# Altium footprint library apollo.PcbLib: 245 footprints (part 11 of 16)
Each footprint in its own frame and in the unit in brackets; x right, y up, seen from the top. Pads: shape width x height; smd on the part's side, far side on the other; paste and mask are expansions set on the pad; w line width, h text height; cw(c..) or ccw(c..) is an arc to the next point about the centre after c.
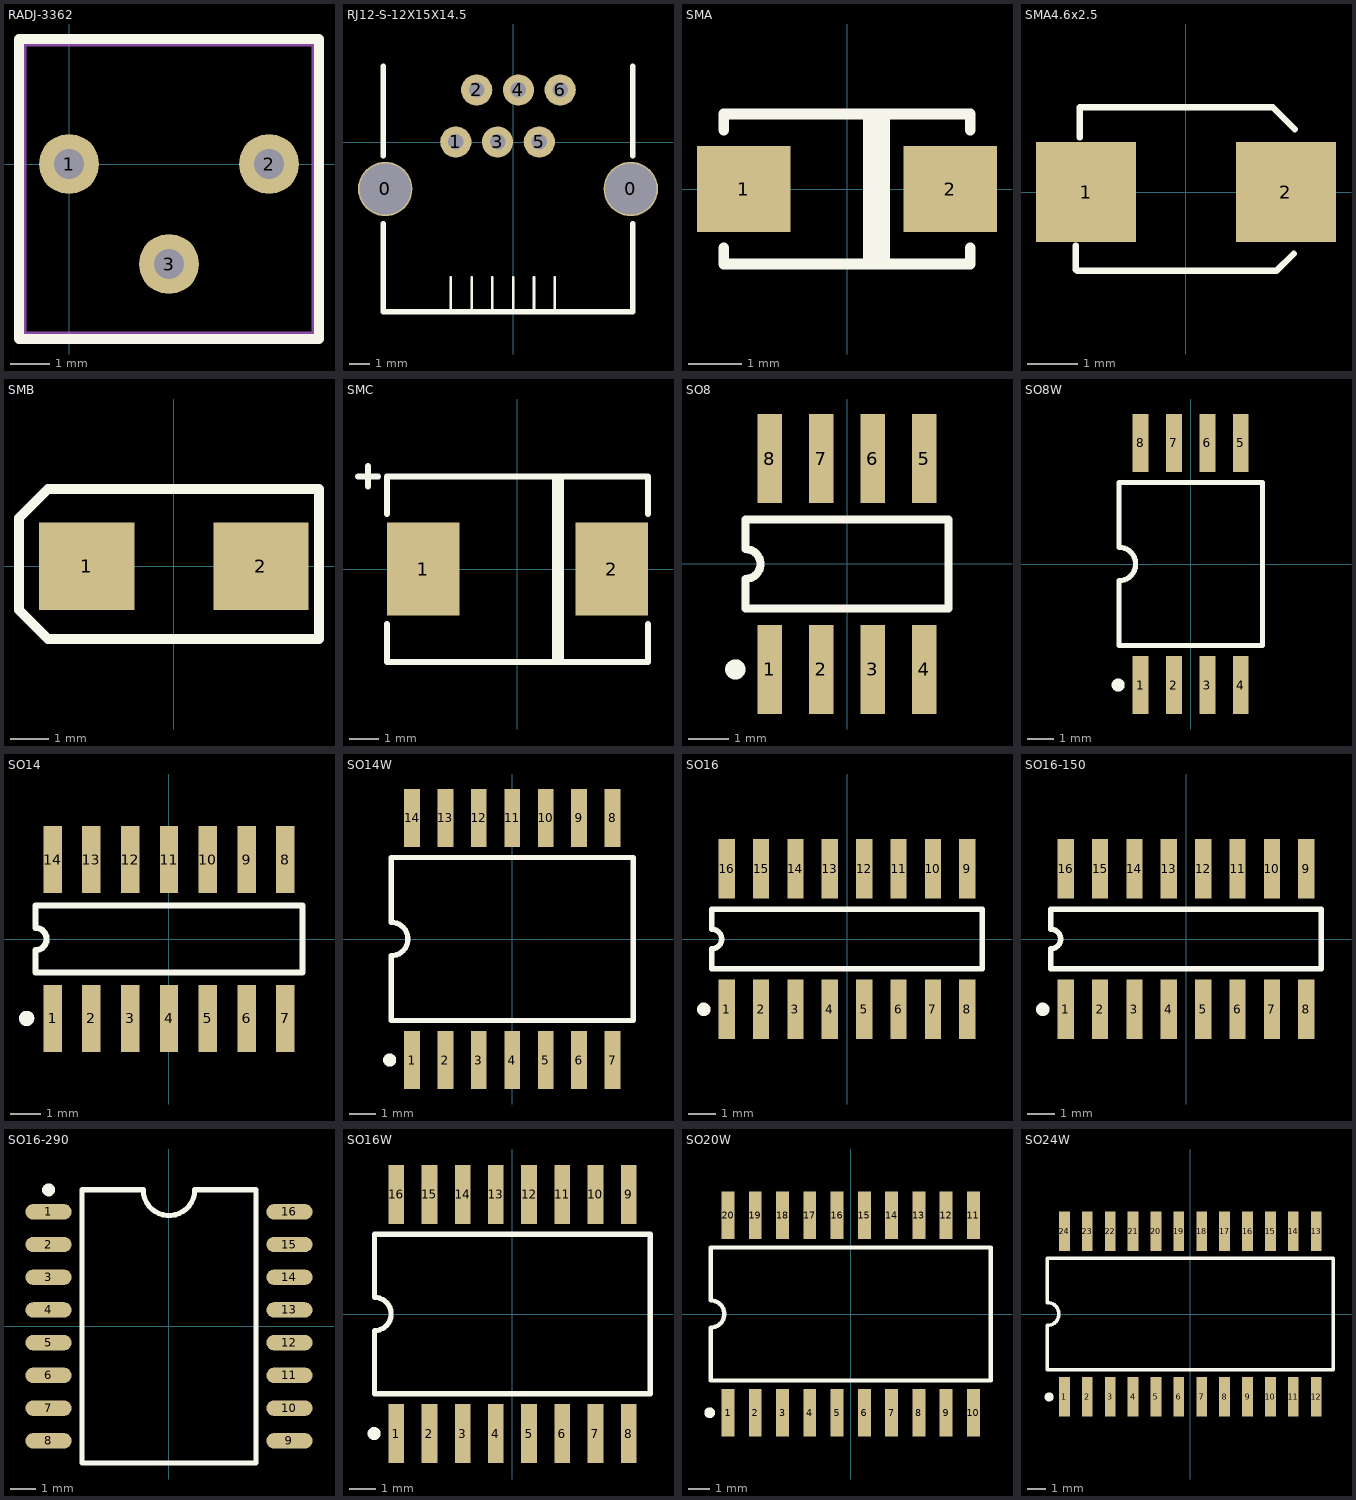
[diagram p10: the footprints below, top view; thin cyan lines are the x and y axes]

## RADJ-3362 [mil] "3362可调电阻"
height 185.04
pads (3):
  round 60 hole 30: 1(0,0) 2(200,0) 3(100,-100)
Top Overlay:
  lines w10: -50,-175 -50,125 250,125 250,-175 -50,-175
Mechanical 13:
  lines w10: -47.5,-169.43 -47.5,122.5 ; -45.65,-172.5 246.28,-172.5 ; -45.65,122.5 246.28,122.5 ; 247.5,-170.65 247.5,121.28

## RJ12-S-12X15X14.5 [mil] "RJ12 socket"
height 570.87
pads (8):
  round 104.69 hole 98.43: 0(-246.22,-90.28) 0(226.22,-90.28)
  round 60 hole 30: 1(-110.39,0.28) 2(-70.24,100.28) 3(-30.08,0.28) 4(10.08,100.28) 5(50.24,0.28) 6(90.39,100.28)
Top Overlay:
  lines w5: -120,-326.5 -120,-260 ; -80,-326.5 -80,-260 ; -40,-326.5 -40,-260 ; 0,-326.5 0,-260 ; 40,-326.5 40,-260 ; 80,-326.5 80,-260
  lines w10: -250.16,-156.5 -250.16,-326.5 230.16,-326.5 230.16,-156.81 229.84,-156.5 ; -250.16,-26.5 -250.16,145.94 ; 229.84,-26.5 230.16,-26.18 230.16,145.94

## SMA [mm]
pads (2):
  rect 1.75x1.6 smd: 1(-1.925,0) 2(1.925,0)
Top Overlay:
  rectangle: 0.3,-1.5 0.806,1.5
  lines w0.203: -2.3,-1.1 -2.3,-1.4 2.3,-1.4 2.3,-1.1 ; -2.3,1.1 -2.3,1.4 2.3,1.4 2.3,1.1
3D body: height 2.15, standoff 0, extent -2.6,-1.325 2.6,1.325

## SMA4.6x2.5 [mm] "SMA贴片 4.6mmX2.5mm"
height 2.44
pads (2):
  rect 2x2 smd: 1(-2,0) 2(2,0)
Top Overlay:
  lines w0.127: -2.203,-1.067 -2.203,-1.549 -2.178,-1.575 1.81,-1.575 2.153,-1.232 ; -2.127,1.092 -2.127,1.702 -2.102,1.702 1.734,1.702 2.178,1.257

## SMB [mm]
pads (2):
  rect 2.5x2.3 smd: 1(-2.286,0) 2(2.286,0)
Top Overlay:
  lines w0.254: -4.064,-1.143 -3.302,-1.905 3.81,-1.905 3.81,2.032 -3.302,2.032 -4.064,1.27 -4.064,-1.143

## SMC [mm]
pads (2):
  rect 2.5x3.2 smd: 1(-3.25,0) 2(3.25,0)
Top Overlay:
  rectangle: 1.2,-3.2 1.606,3.2
  lines w0.203: -5.5,3.2 -5.15,3.2 ; -5.15,2.85 -5.15,3.2 ; -5.15,3.55 -5.15,3.2 ; -4.8,3.2 -5.15,3.2 ; -4.5,-1.9 -4.5,-3.2 4.5,-3.2 4.5,-1.9 ; -4.5,1.9 -4.5,3.2 4.5,3.2 4.5,1.9
3D body: height 2.8, standoff 0, extent -3.799,-3.1 3.799,3.12

## SO8 [mm] "Small Outline; 8 Leads; Body Width 3.9 mm; Pitch 1.27 mm"
height 1.75
pads (8):
  rect 0.6x2.2 smd: 1(-1.905,-2.6) 2(-0.635,-2.6) 3(0.635,-2.6) 4(1.905,-2.6) 5(1.905,2.6) 6(0.635,2.6) 7(-0.635,2.6) 8(-1.905,2.6)
Top Overlay:
  circle w0.25: c-2.755,-2.6 r0.125
  lines w0.2: -2.5,-1.1 -2.5,-0.367 ccw(c-2.5,0) -2.5,0.367 -2.5,1.1 2.5,1.1 2.5,-1.1 -2.5,-1.1

## SO8W [mm] "Small Outline; 8 Leads; Body Width 7.5 mm; Pitch 1.27 mm"
height 2.65
pads (8):
  rect 0.6x2.2 smd: 1(-1.905,-4.6) 2(-0.635,-4.6) 3(0.635,-4.6) 4(1.905,-4.6) 5(1.905,4.6) 6(0.635,4.6) 7(-0.635,4.6) 8(-1.905,4.6)
Top Overlay:
  circle w0.25: c-2.755,-4.6 r0.125
  lines w0.2: -2.725,-3.1 -2.725,-0.635 ccw(c-2.725,0) -2.725,0.635 -2.725,3.1 2.725,3.1 2.725,-3.1 -2.725,-3.1

## SO14 [mm] "Small Outline; 14 Leads; Body Width 3.9 mm; Pitch 1.27 mm"
height 1.75
pads (14):
  rect 0.6x2.2 smd: 1(-3.81,-2.6) 2(-2.54,-2.6) 3(-1.27,-2.6) 4(0,-2.6) 5(1.27,-2.6) 6(2.54,-2.6) 7(3.81,-2.6) 8(3.81,2.6) 9(2.54,2.6) 10(1.27,2.6) 11(0,2.6) 12(-1.27,2.6) 13(-2.54,2.6) 14(-3.81,2.6)
Top Overlay:
  circle w0.25: c-4.66,-2.6 r0.125
  lines w0.2: -4.375,-1.1 -4.375,-0.367 ccw(c-4.375,0) -4.375,0.367 -4.375,1.1 4.375,1.1 4.375,-1.1 -4.375,-1.1

## SO14W [mm] "Small Outline; 14 Leads; Body Width 7.5 mm; Pitch 1.27 mm"
height 2.65
pads (14):
  rect 0.6x2.2 smd: 1(-3.81,-4.6) 2(-2.54,-4.6) 3(-1.27,-4.6) 4(0,-4.6) 5(1.27,-4.6) 6(2.54,-4.6) 7(3.81,-4.6) 8(3.81,4.6) 9(2.54,4.6) 10(1.27,4.6) 11(0,4.6) 12(-1.27,4.6) 13(-2.54,4.6) 14(-3.81,4.6)
Top Overlay:
  circle w0.25: c-4.66,-4.6 r0.125
  lines w0.2: -4.6,-3.1 4.6,-3.1 4.6,3.1 -4.6,3.1 -4.6,0.635 cw(c-4.6,0) -4.6,-0.635 -4.6,-3.1

## SO16 [mm] "Small Outline; 16 Leads; Body Width 3.9 mm; Pitch 1.27 mm"
height 1.75
pads (16):
  rect 0.6x2.2 smd: 1(-4.445,-2.6) 2(-3.175,-2.6) 3(-1.905,-2.6) 4(-0.635,-2.6) 5(0.635,-2.6) 6(1.905,-2.6) 7(3.175,-2.6) 8(4.445,-2.6) 9(4.445,2.6) 10(3.175,2.6) 11(1.905,2.6) 12(0.635,2.6) 13(-0.635,2.6) 14(-1.905,2.6) 15(-3.175,2.6) 16(-4.445,2.6)
Top Overlay:
  circle w0.25: c-5.295,-2.6 r0.125
  lines w0.2: -5,-1.1 -5,-0.367 ccw(c-5,0) -5,0.367 -5,1.1 5,1.1 5,-1.1 -5,-1.1

## SO16-150 [mm] "SOP 16pin, 主体宽度4mm"
height 4.064
pads (16):
  rect 0.6x2.2 smd: 1(-4.445,-2.6) 2(-3.175,-2.6) 3(-1.905,-2.6) 4(-0.635,-2.6) 5(0.635,-2.6) 6(1.905,-2.6) 7(3.175,-2.6) 8(4.445,-2.6) 9(4.445,2.6) 10(3.175,2.6) 11(1.905,2.6) 12(0.635,2.6) 13(-0.635,2.6) 14(-1.905,2.6) 15(-3.175,2.6) 16(-4.445,2.6)
Top Overlay:
  circle w0.25: c-5.295,-2.6 r0.125
  lines w0.2: -5,-1.1 5,-1.1 5,1.1 -5,1.1 -5,0.367 cw(c-5,0) -5,-0.367 -5,-1.1
3D body: height 1.4, standoff -0.05, extent -4.978,-2.972 4.997,2.972

## SO16-290 [mm] "SOP 16pin, 主体宽7.36mm"
height 3.632
pads (16):
  oval 1.8x0.6 smd: 1(-4.675,4.445) 2(-4.675,3.175) 3(-4.675,1.905) 4(-4.675,0.635) 5(-4.675,-0.635) 6(-4.675,-1.905) 7(-4.675,-3.175) 8(-4.675,-4.445) 9(4.675,-4.445) 10(4.675,-3.175) 11(4.675,-1.905) 12(4.675,-0.635) 13(4.675,0.635) 14(4.675,1.905) 15(4.675,3.175) 16(4.675,4.445)
Top Overlay:
  circle w0.25: c-4.675,5.295 r0.125
  lines w0.2: -3.375,-5.3 3.375,-5.3 3.375,5.3 1,5.3 cw(c0,5.3) -1,5.3 -3.375,5.3 -3.375,-5.3
3D body: height 3.71, standoff 0.02, extent -5.2,-5.156 5.163,5.156

## SO16W [mm] "Small Outline; 16 Leads; Body Width 7.5 mm; Pitch 1.27 mm"
height 2.65
pads (16):
  rect 0.6x2.25 smd: 1(-4.445,-4.575) 2(-3.175,-4.575) 3(-1.905,-4.575) 4(-0.635,-4.575) 5(0.635,-4.575) 6(1.905,-4.575) 7(3.175,-4.575) 8(4.445,-4.575) 9(4.445,4.575) 10(3.175,4.575) 11(1.905,4.575) 12(0.635,4.575) 13(-0.635,4.575) 14(-1.905,4.575) 15(-3.175,4.575) 16(-4.445,4.575)
Top Overlay:
  circle w0.25: c-5.295,-4.575 r0.125
  lines w0.2: -5.275,-3.05 -5.275,-0.635 ccw(c-5.275,0) -5.275,0.635 -5.275,3.05 5.275,3.05 5.275,-3.05 -5.275,-3.05

## SO20W [mm] "Small Outline; 20 Leads; Body Width 7.5 mm; Pitch 1.27 mm"
height 2.65
pads (20):
  rect 0.6x2.2 smd: 1(-5.715,-4.6) 2(-4.445,-4.6) 3(-3.175,-4.6) 4(-1.905,-4.6) 5(-0.635,-4.6) 6(0.635,-4.6) 7(1.905,-4.6) 8(3.175,-4.6) 9(4.445,-4.6) 10(5.715,-4.6) 11(5.715,4.6) 12(4.445,4.6) 13(3.175,4.6) 14(1.905,4.6) 15(0.635,4.6) 16(-0.635,4.6) 17(-1.905,4.6) 18(-3.175,4.6) 19(-4.445,4.6) 20(-5.715,4.6)
Top Overlay:
  circle w0.25: c-6.565,-4.6 r0.125
  lines w0.2: -6.525,-3.1 6.525,-3.1 6.525,3.1 -6.525,3.1 -6.525,0.635 cw(c-6.525,0) -6.525,-0.635 -6.525,-3.1

## SO24W [mm] "Small Outline; 24 Leads; Body Width 7.5 mm; Pitch 1.27 mm"
height 2.64
pads (24):
  rect 0.6x2.2 smd: 1(-6.985,-4.6) 2(-5.715,-4.6) 3(-4.445,-4.6) 4(-3.175,-4.6) 5(-1.905,-4.6) 6(-0.635,-4.6) 7(0.635,-4.6) 8(1.905,-4.6) 9(3.175,-4.6) 10(4.445,-4.6) 11(5.715,-4.6) 12(6.985,-4.6) 13(6.985,4.6) 14(5.715,4.6) 15(4.445,4.6) 16(3.175,4.6) 17(1.905,4.6) 18(0.635,4.6) 19(-0.635,4.6) 20(-1.905,4.6) 21(-3.175,4.6) 22(-4.445,4.6) 23(-5.715,4.6) 24(-6.985,4.6)
Top Overlay:
  circle w0.25: c-7.835,-4.6 r0.125
  lines w0.2: -7.925,-3.1 -7.925,-0.635 ccw(c-7.925,0) -7.925,0.635 -7.925,3.1 7.925,3.1 7.925,-3.1 -7.925,-3.1